# EAGLE library part IC_EEPROM (library TD-MySensors)
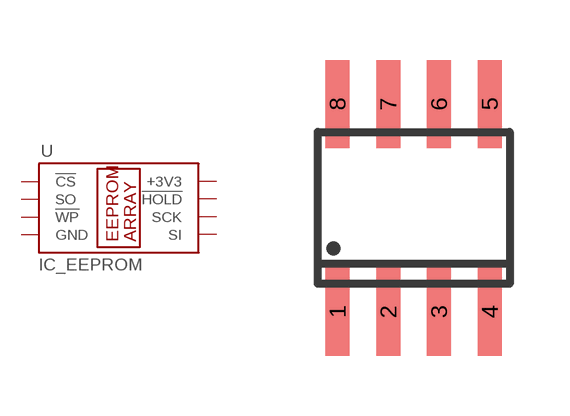
[diagram p5: symbol with the pads of SO-08; footprint SO-08]

Designator prefix U

## IC_EEPROM  [SO-08]
1  !CS
2  SO
3  !WP
4  GND  pwr
5  SI
6  SCK
7  !HOLD
8  +3V3  pwr

## Footprint SO-08 (pad centres in mm)
Small Outline Narrow Plastic Gull Wing 150-mil body, package type SN
smd 0.6 x 2.2: 1 -1.905,-2.6; 2 -0.635,-2.6; 3 0.635,-2.6; 4 1.905,-2.6; 5 1.905,2.6; 6 0.635,2.6; 7 -0.635,2.6; 8 -1.905,2.6